# EAGLE library part FLATFLEX-40 (library SquantorConnectors)
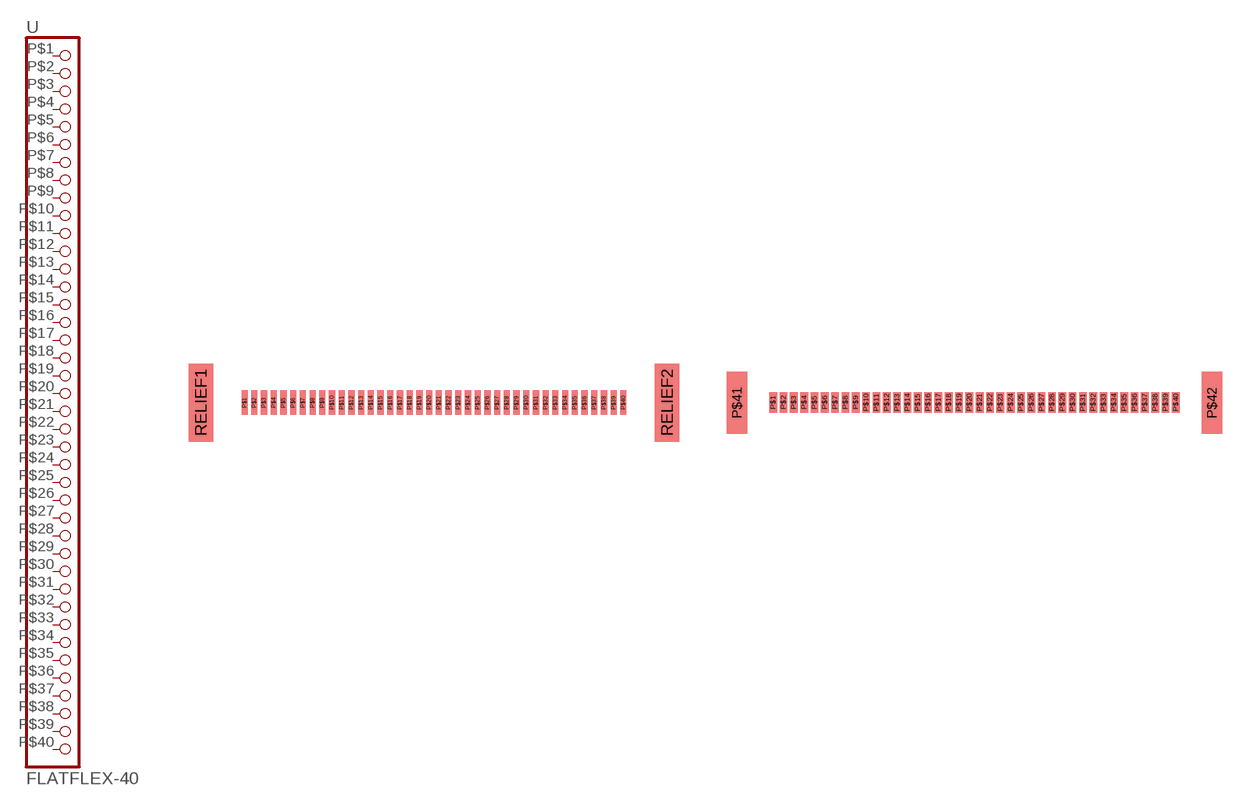
[diagram p49: symbol with the pads of FLATFLEX40_100; footprints FLATFLEX40_100, FLATFLEX40_127]

Designator prefix -

## FLATFLEX-40FF100  [FLATFLEX40_100]
P$1  1  pas
P$2  2  pas
P$3  3  pas
P$4  4  pas
P$5  5  pas
P$6  6  pas
P$7  7  pas
P$8  8  pas
P$9  9  pas
P$10  10  pas
P$11  11  pas
P$12  12  pas
P$13  13  pas
P$14  14  pas
P$15  15  pas
P$16  16  pas
P$17  17  pas
P$18  18  pas
P$19  19  pas
P$20  20  pas
P$21  21  pas
P$22  22  pas
P$23  23  pas
P$24  24  pas
P$25  25  pas
P$26  26  pas
P$27  27  pas
P$28  28  pas
P$29  29  pas
P$30  30  pas
P$31  31  pas
P$32  32  pas
P$33  33  pas
P$34  34  pas
P$35  35  pas
P$36  36  pas
P$37  37  pas
P$38  38  pas
P$39  39  pas
P$40  40  pas

## FLATFLEX-40FF127  [FLATFLEX40_127]
Pads as for FLATFLEX40_100

## Footprint FLATFLEX40_100 (pad centres in mm)
smd 0.635 x 2.54: P$1 -19.5,0; P$2 -18.5,0; P$3 -17.5,0; P$4 -16.5,0; P$5 -15.5,0; P$6 -14.5,0; P$7 -13.5,0; P$8 -12.5,0; P$9 -11.5,0; P$10 -10.5,0; P$11 -9.5,0; P$12 -8.5,0; P$13 -7.5,0; P$14 -6.5,0; P$15 -5.5,0; P$16 -4.5,0; P$17 -3.5,0; P$18 -2.5,0; P$19 -1.5,0; P$20 -0.5,0; P$21 0.5,0; P$22 1.5,0; P$23 2.5,0; P$24 3.5,0; P$25 4.5,0; P$26 5.5,0; P$27 6.5,0; P$28 7.5,0; P$29 8.5,0; P$30 9.5,0; P$31 10.5,0; P$32 11.5,0; P$33 12.5,0; P$34 13.5,0; P$35 14.5,0; P$36 15.5,0; P$37 16.5,0; P$38 17.5,0; P$39 18.5,0; P$40 19.5,0
smd 2.54 x 8.05: RELIEF1 -24,0; RELIEF2 24,0

## Footprint FLATFLEX40_127 (pad centres in mm)
smd 0.952 x 2.54: P$1 -24.765,0; P$2 -23.495,0; P$3 -22.225,0; P$4 -20.955,0; P$5 -19.685,0; P$6 -18.415,0; P$7 -17.145,0; P$8 -15.875,0; P$9 -14.605,0; P$10 -13.335,0; P$11 -12.065,0; P$12 -10.795,0; P$13 -9.525,0; P$14 -8.255,0; P$15 -6.985,0; P$16 -5.715,0; P$17 -4.445,0; P$18 -3.175,0; P$19 -1.905,0; P$20 -0.635,0; P$21 0.635,0; P$22 1.905,0; P$23 3.175,0; P$24 4.445,0; P$25 5.715,0; P$26 6.985,0; P$27 8.255,0; P$28 9.525,0; P$29 10.795,0; P$30 12.065,0; P$31 13.335,0; P$32 14.605,0; P$33 15.875,0; P$34 17.145,0; P$35 18.415,0; P$36 19.685,0; P$37 20.955,0; P$38 22.225,0; P$39 23.495,0; P$40 24.765,0
smd 2.54 x 7.62: P$41 -29.21,0; P$42 29.21,0